# Altium footprint library PB5006.PcbLib: 1 footprints
Each footprint in its own frame and in the unit in brackets; x right, y up, seen from the top. Pads: shape width x height; smd on the part's side, far side on the other; paste and mask are expansions set on the pad; w line width, h text height; cw(c..) or ccw(c..) is an arc to the next point about the centre after c.
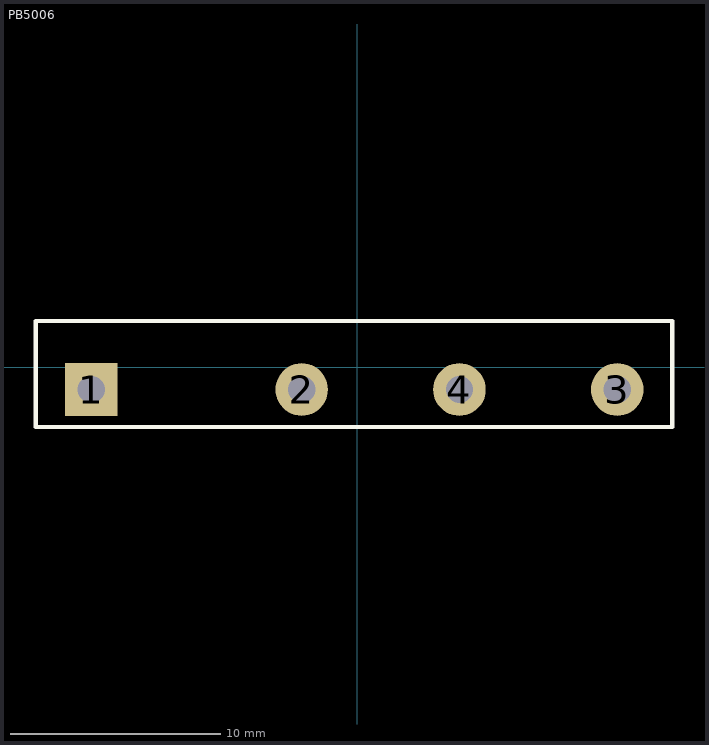
[diagram p0: the footprint, top view; thin cyan lines are the x and y axes]

## PB5006 [mm]
pads (4):
  rect 2.5x2.5 hole 1.3: 1(-12.652,-1.057)
  round 2.5 hole 1.3: 2(-2.652,-1.057) 3(12.348,-1.057) 4(4.848,-1.057)
Top Overlay:
  lines w0.2: -15.291,-2.835 14.961,-2.835 14.961,2.198 -15.291,2.198 -15.291,-2.835
3D body "PB.STEP": height 24.03, standoff -13.47, extent -15.164,-2.729 14.836,2.071